# Altium schematic symbol library Convertidores analog-dig (ADC).SchLib: 1 symbol
Pins are listed as number, name and electrical type; pins without a type are passive.

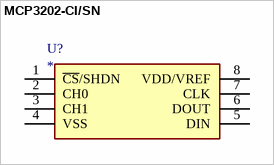
[diagram p0: symbol MCP3202-CI/SN]

## MCP3202-CI/SN
designator U?
ComponentLink1Description: mouser; ComponentLink1URL: https://www.mouser.es/ProductDetail/Microchip-Technology/MCP3202-CI-SN?qs=9y3LFqDLL8JIhCxn5RlTjA%3D%3D; datasheet: https://www.mouser.es/datasheet/2/268/21034F-64776.pdf
footprint SOIC127P600X175-8N
pins: 1 ~{CS}/SHDN, 2 CH0, 3 CH1, 4 VSS, 5 DIN, 6 DOUT, 7 CLK, 8 VDD/VREF